# Altium integrated library TI Logic Buffer Line Driver.IntLib: 1053 symbols (part 12 of 17)
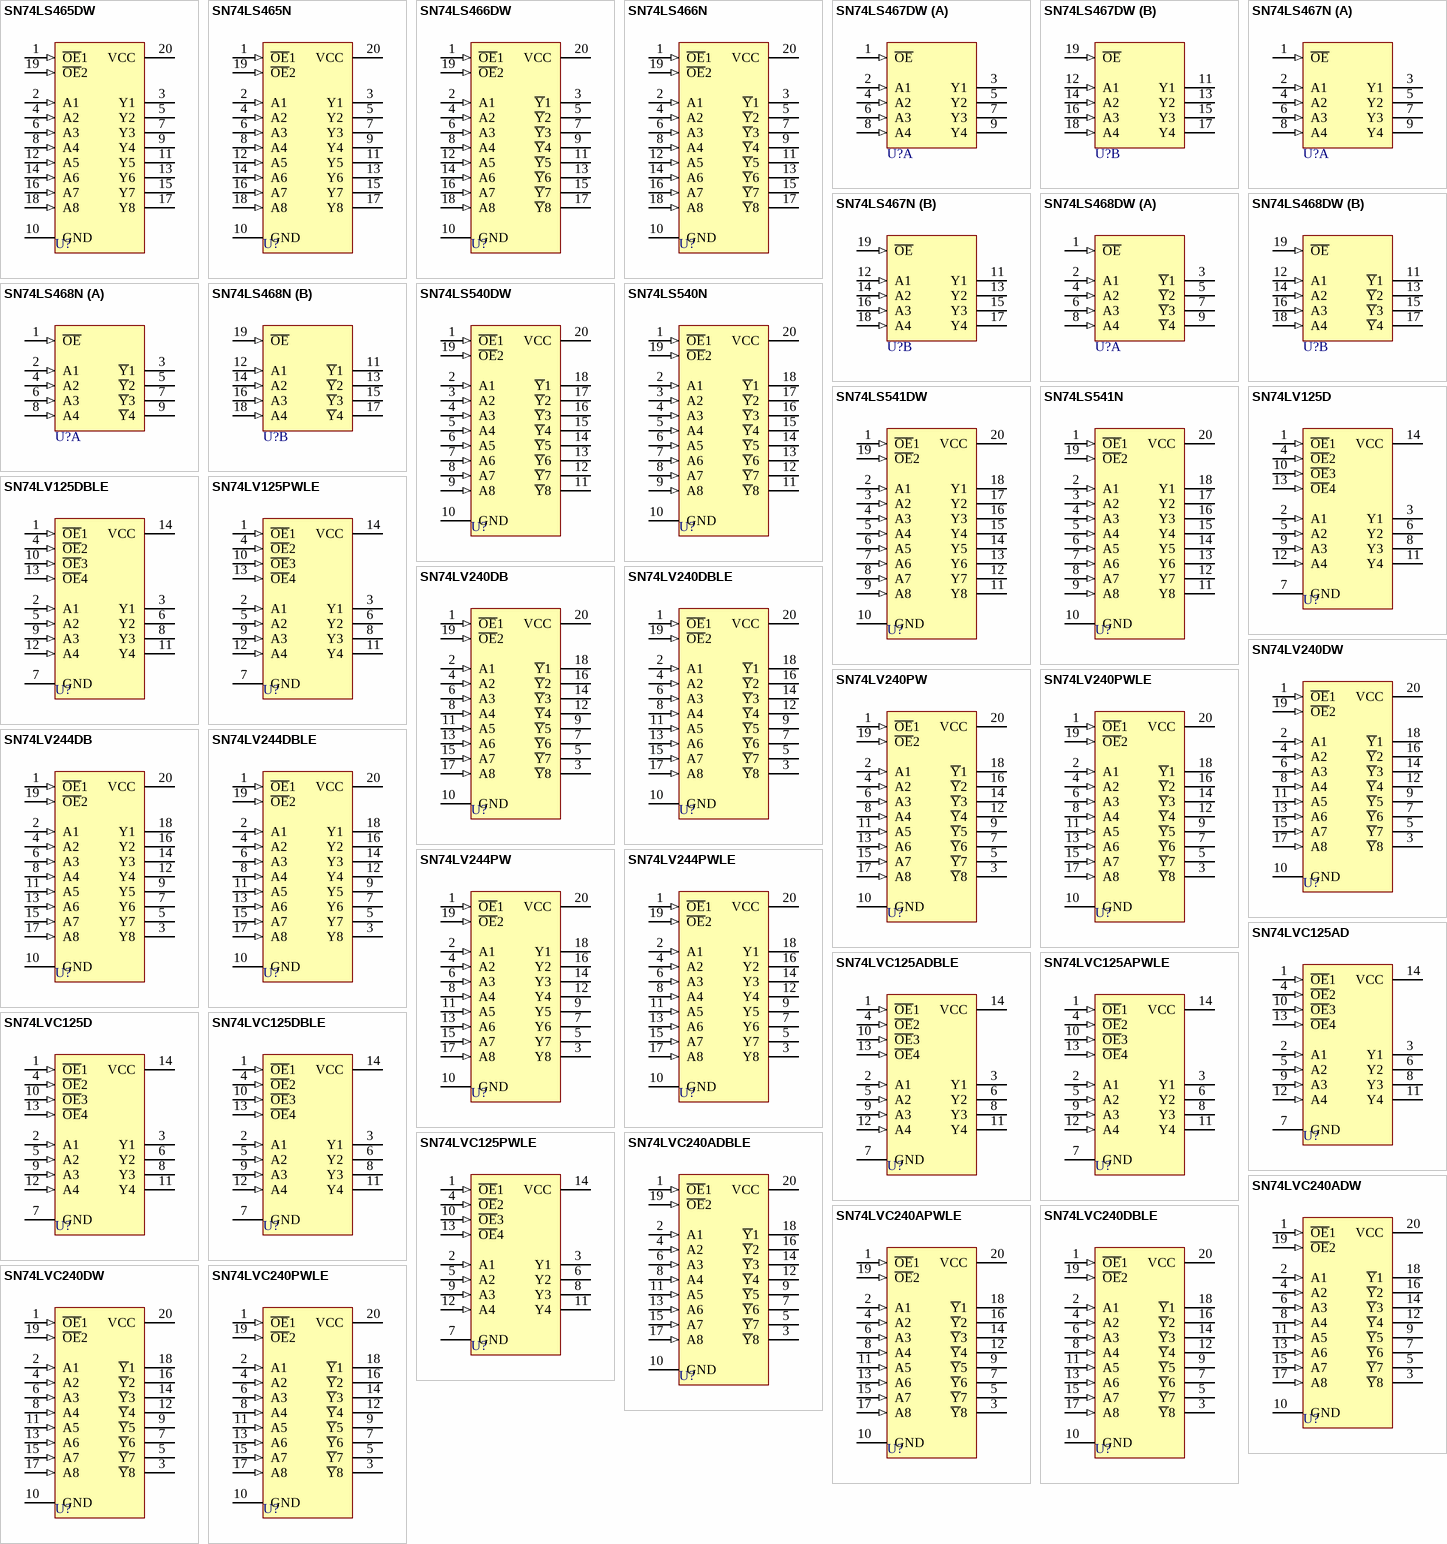
[diagram p56: symbols SN74LS465DW to SN74LVC240PWLE]

## SN74LS467N
designator U?
Octal Buffer with 3-State Outputs; Package Information: Latest Revision: Oct-1995; Published: 8-Jun-2000; Revision: 17-Jul-2002: Re-released for DXP Platform.; Datasheet: Latest Revision: Mar-1988; Package Reference: N020; Publisher: Altium Limited
footprint N020 (DIP; 20 Leads; Row Spacing 7.62 mm; Pitch 2.54 mm)
signal-integrity model SN74LS467N
pins on every part: 10 GND (power) hidden to GND, 20 VCC (power) hidden to VCC
part A pins: 1 ~{OE} (in), 2 A1 (in), 3 Y1 (hiz), 4 A2 (in), 5 Y2 (hiz), 6 A3 (in), 7 Y3 (hiz), 8 A4 (in), 9 Y4 (hiz)
part B pins: 11 Y1 (hiz), 12 A1 (in), 13 Y2 (hiz), 14 A2 (in), 15 Y3 (hiz), 16 A3 (in), 17 Y4 (hiz), 18 A4 (in), 19 ~{OE} (in)

## SN74LS468DW
designator U?
Octal Buffer with 3-State Outputs; Package Information: Latest Revision: Mar-2000; Code - JEDEC: MS-013; Published: 8-Jun-2000; Revision: 17-Jul-2002: Re-released for DXP Platform.; Datasheet: Latest Revision: Mar-1988; Package Reference: DW020; Publisher: Altium Limited
footprint DW020 (Plastic Small Outline; 20 Leads; Body Width 7.5 mm)
signal-integrity model SN74LS468DW
pins on every part: 10 GND (power) hidden to GND, 20 VCC (power) hidden to VCC
part A pins: 1 ~{OE} (in), 2 A1 (in), 3 ~{Y}1 (hiz), 4 A2 (in), 5 ~{Y}2 (hiz), 6 A3 (in), 7 ~{Y}3 (hiz), 8 A4 (in), 9 ~{Y}4 (hiz)
part B pins: 11 ~{Y}1 (hiz), 12 A1 (in), 13 ~{Y}2 (hiz), 14 A2 (in), 15 ~{Y}3 (hiz), 16 A3 (in), 17 ~{Y}4 (hiz), 18 A4 (in), 19 ~{OE} (in)

## SN74LS468N
designator U?
Octal Buffer with 3-State Outputs; Package Information: Latest Revision: Oct-1995; Published: 8-Jun-2000; Revision: 17-Jul-2002: Re-released for DXP Platform.; Datasheet: Latest Revision: Mar-1988; Package Reference: N020; Publisher: Altium Limited
footprint N020 (DIP; 20 Leads; Row Spacing 7.62 mm; Pitch 2.54 mm)
signal-integrity model SN74LS468N
pins on every part: 10 GND (power) hidden to GND, 20 VCC (power) hidden to VCC
part A pins: 1 ~{OE} (in), 2 A1 (in), 3 ~{Y}1 (hiz), 4 A2 (in), 5 ~{Y}2 (hiz), 6 A3 (in), 7 ~{Y}3 (hiz), 8 A4 (in), 9 ~{Y}4 (hiz)
part B pins: 11 ~{Y}1 (hiz), 12 A1 (in), 13 ~{Y}2 (hiz), 14 A2 (in), 15 ~{Y}3 (hiz), 16 A3 (in), 17 ~{Y}4 (hiz), 18 A4 (in), 19 ~{OE} (in)

## SN74LS540DW
designator U?
Octal Buffer and Line Driver with 3-State Outputs; Package Information: Latest Revision: Mar-2000; Code - JEDEC: MS-013; Published: 8-Jun-2000; Revision: 17-Jul-2002: Re-released for DXP Platform.; Datasheet: Latest Revision: Mar-1988; Package Reference: DW020; Publisher: Altium Limited
footprint DW020 (Plastic Small Outline; 20 Leads; Body Width 7.5 mm)
signal-integrity model SN74LS540DW
pins: 1 ~{OE}1 (in), 2 A1 (in), 3 A2 (in), 4 A3 (in), 5 A4 (in), 6 A5 (in), 7 A6 (in), 8 A7 (in), 9 A8 (in), 10 GND (power), 11 ~{Y}8 (hiz), 12 ~{Y}7 (hiz), 13 ~{Y}6 (hiz), 14 ~{Y}5 (hiz), 15 ~{Y}4 (hiz), 16 ~{Y}3 (hiz), 17 ~{Y}2 (hiz), 18 ~{Y}1 (hiz), 19 ~{OE}2 (in), 20 VCC (power)

## SN74LS540N
designator U?
Octal Buffer and Line Driver with 3-State Outputs; Package Information: Latest Revision: Oct-1995; Published: 8-Jun-2000; Revision: 17-Jul-2002: Re-released for DXP Platform.; Datasheet: Latest Revision: Mar-1988; Package Reference: N020; Publisher: Altium Limited
footprint N020 (DIP; 20 Leads; Row Spacing 7.62 mm; Pitch 2.54 mm)
signal-integrity model SN74LS540N
pins: 1 ~{OE}1 (in), 2 A1 (in), 3 A2 (in), 4 A3 (in), 5 A4 (in), 6 A5 (in), 7 A6 (in), 8 A7 (in), 9 A8 (in), 10 GND (power), 11 ~{Y}8 (hiz), 12 ~{Y}7 (hiz), 13 ~{Y}6 (hiz), 14 ~{Y}5 (hiz), 15 ~{Y}4 (hiz), 16 ~{Y}3 (hiz), 17 ~{Y}2 (hiz), 18 ~{Y}1 (hiz), 19 ~{OE}2 (in), 20 VCC (power)

## SN74LS541DW
designator U?
Octal Buffer and Line Driver with 3-State Outputs; Package Information: Latest Revision: Mar-2000; Code - JEDEC: MS-013; Published: 8-Jun-2000; Revision: 17-Jul-2002: Re-released for DXP Platform.; Datasheet: Latest Revision: Mar-1988; Package Reference: DW020; Publisher: Altium Limited
footprint DW020 (Plastic Small Outline; 20 Leads; Body Width 7.5 mm)
signal-integrity model SN74LS541DW
pins: 1 ~{OE}1 (in), 2 A1 (in), 3 A2 (in), 4 A3 (in), 5 A4 (in), 6 A5 (in), 7 A6 (in), 8 A7 (in), 9 A8 (in), 10 GND (power), 11 Y8 (hiz), 12 Y7 (hiz), 13 Y6 (hiz), 14 Y5 (hiz), 15 Y4 (hiz), 16 Y3 (hiz), 17 Y2 (hiz), 18 Y1 (hiz), 19 ~{OE}2 (in), 20 VCC (power)

## SN74LS541N
designator U?
Octal Buffer and Line Driver with 3-State Outputs; Package Information: Latest Revision: Oct-1995; Published: 8-Jun-2000; Revision: 17-Jul-2002: Re-released for DXP Platform.; Datasheet: Latest Revision: Mar-1988; Package Reference: N020; Publisher: Altium Limited
footprint N020 (DIP; 20 Leads; Row Spacing 7.62 mm; Pitch 2.54 mm)
signal-integrity model SN74LS541N
pins: 1 ~{OE}1 (in), 2 A1 (in), 3 A2 (in), 4 A3 (in), 5 A4 (in), 6 A5 (in), 7 A6 (in), 8 A7 (in), 9 A8 (in), 10 GND (power), 11 Y8 (hiz), 12 Y7 (hiz), 13 Y6 (hiz), 14 Y5 (hiz), 15 Y4 (hiz), 16 Y3 (hiz), 17 Y2 (hiz), 18 Y1 (hiz), 19 ~{OE}2 (in), 20 VCC (power)

## SN74LV125D
designator U?
Quadruple Bus Buffer Gate with 3-State Outputs; Package Information: Latest Revision: Jan-1998; Published: 8-Jun-2000; Revision: 17-Jul-2002: Re-released for DXP Platform.; Datasheet: Latest Revision: Apr-1996; Package Reference: D014; Publisher: Altium Limited
footprint D014 (Small Outline; 14 Leads; Body Width 3.9 mm; Pitch 1.27 mm)
signal-integrity model SN74LV125D
pins: 1 ~{OE}1 (in), 2 A1 (in), 3 Y1 (hiz), 4 ~{OE}2 (in), 5 A2 (in), 6 Y2 (hiz), 7 GND (power), 8 Y3 (hiz), 9 A3 (in), 10 ~{OE}3 (in), 11 Y4 (hiz), 12 A4 (in), 13 ~{OE}4 (in), 14 VCC (power)

## SN74LV125DBLE
designator U?
Quadruple Bus Buffer Gate with 3-State Outputs; Package Information: Latest Revision: May-1999; Code - JEDEC: MO-150-AB; Published: 8-Jun-2000; Revision: 17-Jul-2002: Re-released for DXP Platform.; Datasheet: Latest Revision: Apr-1996; Package Reference: DB014; Publisher: Altium Limited
footprint DB014 (Plastic SSOP; 14 Leads; Body Width 5.3 mm; Pitch 0.65 mm)
signal-integrity model SN74LV125DBLE
pins: 1 ~{OE}1 (in), 2 A1 (in), 3 Y1 (hiz), 4 ~{OE}2 (in), 5 A2 (in), 6 Y2 (hiz), 7 GND (power), 8 Y3 (hiz), 9 A3 (in), 10 ~{OE}3 (in), 11 Y4 (hiz), 12 A4 (in), 13 ~{OE}4 (in), 14 VCC (power)

## SN74LV125PWLE
designator U?
Quadruple Bus Buffer Gate with 3-State Outputs; Package Information: Latest Revision: Feb-1999; Published: 8-Jun-2000; Revision: 17-Jul-2002: Re-released for DXP Platform.; Datasheet: Latest Revision: Apr-1996; Package Reference: PW014; Publisher: Altium Limited
footprint PW014 (Shrink Small Outline; 14 Leads; Body Width 4.4 mm; Pitch 0.65 mm)
signal-integrity model SN74LV125PWLE
pins: 1 ~{OE}1 (in), 2 A1 (in), 3 Y1 (hiz), 4 ~{OE}2 (in), 5 A2 (in), 6 Y2 (hiz), 7 GND (power), 8 Y3 (hiz), 9 A3 (in), 10 ~{OE}3 (in), 11 Y4 (hiz), 12 A4 (in), 13 ~{OE}4 (in), 14 VCC (power)

## SN74LV240DB
designator U?
Octal Buffer/Driver with 3-State Outputs; Package Information: Latest Revision: May-1999; Code - JEDEC: MO-150-AE; Published: 8-Jun-2000; Revision: 17-Jul-2002: Re-released for DXP Platform.; Datasheet: Latest Revision: Apr-1996; Package Reference: DB020; Publisher: Altium Limited
footprint DB020 (Plastic SSOP; 20 Leads; Body Width 5.3 mm; Pitch 0.65 mm)
signal-integrity model SN74LV240DB
pins: 1 ~{OE}1 (in), 2 A1 (in), 3 ~{Y}8 (hiz), 4 A2 (in), 5 ~{Y}7 (hiz), 6 A3 (in), 7 ~{Y}6 (hiz), 8 A4 (in), 9 ~{Y}5 (hiz), 10 GND (power), 11 A5 (in), 12 ~{Y}4 (hiz), 13 A6 (in), 14 ~{Y}3 (hiz), 15 A7 (in), 16 ~{Y}2 (hiz), 17 A8 (in), 18 ~{Y}1 (hiz), 19 ~{OE}2 (in), 20 VCC (power)

## SN74LV240DBLE
designator U?
Octal Buffer/Driver with 3-State Outputs; Package Information: Latest Revision: May-1999; Code - JEDEC: MO-150-AE; Published: 8-Jun-2000; Revision: 17-Jul-2002: Re-released for DXP Platform.; Datasheet: Latest Revision: Apr-1996; Package Reference: DB020; Publisher: Altium Limited
footprint DB020 (Plastic SSOP; 20 Leads; Body Width 5.3 mm; Pitch 0.65 mm)
signal-integrity model SN74LV240DBLE
pins: 1 ~{OE}1 (in), 2 A1 (in), 3 ~{Y}8 (hiz), 4 A2 (in), 5 ~{Y}7 (hiz), 6 A3 (in), 7 ~{Y}6 (hiz), 8 A4 (in), 9 ~{Y}5 (hiz), 10 GND (power), 11 A5 (in), 12 ~{Y}4 (hiz), 13 A6 (in), 14 ~{Y}3 (hiz), 15 A7 (in), 16 ~{Y}2 (hiz), 17 A8 (in), 18 ~{Y}1 (hiz), 19 ~{OE}2 (in), 20 VCC (power)

## SN74LV240DW
designator U?
Octal Buffer/Driver with 3-State Outputs; Package Information: Latest Revision: Mar-2000; Code - JEDEC: MS-013; Published: 8-Jun-2000; Revision: 17-Jul-2002: Re-released for DXP Platform.; Datasheet: Latest Revision: Apr-1996; Package Reference: DW020; Publisher: Altium Limited
footprint DW020 (Plastic Small Outline; 20 Leads; Body Width 7.5 mm)
signal-integrity model SN74LV240DW
pins: 1 ~{OE}1 (in), 2 A1 (in), 3 ~{Y}8 (hiz), 4 A2 (in), 5 ~{Y}7 (hiz), 6 A3 (in), 7 ~{Y}6 (hiz), 8 A4 (in), 9 ~{Y}5 (hiz), 10 GND (power), 11 A5 (in), 12 ~{Y}4 (hiz), 13 A6 (in), 14 ~{Y}3 (hiz), 15 A7 (in), 16 ~{Y}2 (hiz), 17 A8 (in), 18 ~{Y}1 (hiz), 19 ~{OE}2 (in), 20 VCC (power)

## SN74LV240PW
designator U?
Octal Buffer/Driver with 3-State Outputs; Package Information: Latest Revision: Feb-1999; Published: 8-Jun-2000; Revision: 17-Jul-2002: Re-released for DXP Platform.; Datasheet: Latest Revision: Apr-1996; Package Reference: PW020; Publisher: Altium Limited
footprint PW020 (Shrink Small Outline; 20 Leads; Body Width 4.4 mm; Pitch 0.65 mm)
signal-integrity model SN74LV240PW
pins: 1 ~{OE}1 (in), 2 A1 (in), 3 ~{Y}8 (hiz), 4 A2 (in), 5 ~{Y}7 (hiz), 6 A3 (in), 7 ~{Y}6 (hiz), 8 A4 (in), 9 ~{Y}5 (hiz), 10 GND (power), 11 A5 (in), 12 ~{Y}4 (hiz), 13 A6 (in), 14 ~{Y}3 (hiz), 15 A7 (in), 16 ~{Y}2 (hiz), 17 A8 (in), 18 ~{Y}1 (hiz), 19 ~{OE}2 (in), 20 VCC (power)

## SN74LV240PWLE
designator U?
Octal Buffer/Driver with 3-State Outputs; Package Information: Latest Revision: Feb-1999; Published: 8-Jun-2000; Revision: 17-Jul-2002: Re-released for DXP Platform.; Datasheet: Latest Revision: Apr-1996; Package Reference: PW020; Publisher: Altium Limited
footprint PW020 (Shrink Small Outline; 20 Leads; Body Width 4.4 mm; Pitch 0.65 mm)
signal-integrity model SN74LV240PWLE
pins: 1 ~{OE}1 (in), 2 A1 (in), 3 ~{Y}8 (hiz), 4 A2 (in), 5 ~{Y}7 (hiz), 6 A3 (in), 7 ~{Y}6 (hiz), 8 A4 (in), 9 ~{Y}5 (hiz), 10 GND (power), 11 A5 (in), 12 ~{Y}4 (hiz), 13 A6 (in), 14 ~{Y}3 (hiz), 15 A7 (in), 16 ~{Y}2 (hiz), 17 A8 (in), 18 ~{Y}1 (hiz), 19 ~{OE}2 (in), 20 VCC (power)

## SN74LV244DB
designator U?
Octal Buffer/Driver with 3-State Outputs; Package Information: Latest Revision: May-1999; Code - JEDEC: MO-150-AE; Published: 8-Jun-2000; Revision: 17-Jul-2002: Re-released for DXP Platform.; Datasheet: Latest Revision: Apr-1996; Package Reference: DB020; Publisher: Altium Limited
footprint DB020 (Plastic SSOP; 20 Leads; Body Width 5.3 mm; Pitch 0.65 mm)
signal-integrity model SN74LV244DB
pins: 1 ~{OE}1 (in), 2 A1 (in), 3 Y8 (hiz), 4 A2 (in), 5 Y7 (hiz), 6 A3 (in), 7 Y6 (hiz), 8 A4 (in), 9 Y5 (hiz), 10 GND (power), 11 A5 (in), 12 Y4 (hiz), 13 A6 (in), 14 Y3 (hiz), 15 A7 (in), 16 Y2 (hiz), 17 A8 (in), 18 Y1 (hiz), 19 ~{OE}2 (in), 20 VCC (power)

## SN74LV244DBLE
designator U?
Octal Buffer/Driver with 3-State Outputs; Package Information: Latest Revision: May-1999; Code - JEDEC: MO-150-AE; Published: 8-Jun-2000; Revision: 17-Jul-2002: Re-released for DXP Platform.; Datasheet: Latest Revision: Apr-1996; Package Reference: DB020; Publisher: Altium Limited
footprint DB020 (Plastic SSOP; 20 Leads; Body Width 5.3 mm; Pitch 0.65 mm)
signal-integrity model SN74LV244DBLE
pins: 1 ~{OE}1 (in), 2 A1 (in), 3 Y8 (hiz), 4 A2 (in), 5 Y7 (hiz), 6 A3 (in), 7 Y6 (hiz), 8 A4 (in), 9 Y5 (hiz), 10 GND (power), 11 A5 (in), 12 Y4 (hiz), 13 A6 (in), 14 Y3 (hiz), 15 A7 (in), 16 Y2 (hiz), 17 A8 (in), 18 Y1 (hiz), 19 ~{OE}2 (in), 20 VCC (power)

## SN74LV244PW
designator U?
Octal Buffer/Driver with 3-State Outputs; Package Information: Latest Revision: Feb-1999; Published: 8-Jun-2000; Revision: 17-Jul-2002: Re-released for DXP Platform.; Datasheet: Latest Revision: Apr-1996; Package Reference: PW020; Publisher: Altium Limited
footprint PW020 (Shrink Small Outline; 20 Leads; Body Width 4.4 mm; Pitch 0.65 mm)
signal-integrity model SN74LV244PW
pins: 1 ~{OE}1 (in), 2 A1 (in), 3 Y8 (hiz), 4 A2 (in), 5 Y7 (hiz), 6 A3 (in), 7 Y6 (hiz), 8 A4 (in), 9 Y5 (hiz), 10 GND (power), 11 A5 (in), 12 Y4 (hiz), 13 A6 (in), 14 Y3 (hiz), 15 A7 (in), 16 Y2 (hiz), 17 A8 (in), 18 Y1 (hiz), 19 ~{OE}2 (in), 20 VCC (power)

## SN74LV244PWLE
designator U?
Octal Buffer/Driver with 3-State Outputs; Package Information: Latest Revision: Feb-1999; Published: 8-Jun-2000; Revision: 17-Jul-2002: Re-released for DXP Platform.; Datasheet: Latest Revision: Apr-1996; Package Reference: PW020; Publisher: Altium Limited
footprint PW020 (Shrink Small Outline; 20 Leads; Body Width 4.4 mm; Pitch 0.65 mm)
signal-integrity model SN74LV244PWLE
pins: 1 ~{OE}1 (in), 2 A1 (in), 3 Y8 (hiz), 4 A2 (in), 5 Y7 (hiz), 6 A3 (in), 7 Y6 (hiz), 8 A4 (in), 9 Y5 (hiz), 10 GND (power), 11 A5 (in), 12 Y4 (hiz), 13 A6 (in), 14 Y3 (hiz), 15 A7 (in), 16 Y2 (hiz), 17 A8 (in), 18 Y1 (hiz), 19 ~{OE}2 (in), 20 VCC (power)

## SN74LVC125AD
designator U?
Quadruple Bus Buffer Gate with 3-State Outputs; Package Information: Latest Revision: Jan-1998; Published: 8-Jun-2000; Revision: 17-Jul-2002: Re-released for DXP Platform.; Datasheet: Latest Revision: Jun-1998; Package Reference: D014; Publisher: Altium Limited
footprint D014 (Small Outline; 14 Leads; Body Width 3.9 mm; Pitch 1.27 mm)
signal-integrity model SN74LVC125AD
pins: 1 ~{OE}1 (in), 2 A1 (in), 3 Y1 (hiz), 4 ~{OE}2 (in), 5 A2 (in), 6 Y2 (hiz), 7 GND (power), 8 Y3 (hiz), 9 A3 (in), 10 ~{OE}3 (in), 11 Y4 (hiz), 12 A4 (in), 13 ~{OE}4 (in), 14 VCC (power)

## SN74LVC125ADBLE
designator U?
Quadruple Bus Buffer Gate with 3-State Outputs; Package Information: Latest Revision: May-1999; Code - JEDEC: MO-150-AB; Published: 8-Jun-2000; Revision: 17-Jul-2002: Re-released for DXP Platform.; Datasheet: Latest Revision: Jun-1998; Package Reference: DB014; Publisher: Altium Limited
footprint DB014 (Plastic SSOP; 14 Leads; Body Width 5.3 mm; Pitch 0.65 mm)
signal-integrity model SN74LVC125ADBLE
pins: 1 ~{OE}1 (in), 2 A1 (in), 3 Y1 (hiz), 4 ~{OE}2 (in), 5 A2 (in), 6 Y2 (hiz), 7 GND (power), 8 Y3 (hiz), 9 A3 (in), 10 ~{OE}3 (in), 11 Y4 (hiz), 12 A4 (in), 13 ~{OE}4 (in), 14 VCC (power)

## SN74LVC125APWLE
designator U?
Quadruple Bus Buffer Gate with 3-State Outputs; Package Information: Latest Revision: Feb-1999; Published: 8-Jun-2000; Revision: 17-Jul-2002: Re-released for DXP Platform.; Datasheet: Latest Revision: Jun-1998; Package Reference: PW014; Publisher: Altium Limited
footprint PW014 (Shrink Small Outline; 14 Leads; Body Width 4.4 mm; Pitch 0.65 mm)
signal-integrity model SN74LVC125APWLE
pins: 1 ~{OE}1 (in), 2 A1 (in), 3 Y1 (hiz), 4 ~{OE}2 (in), 5 A2 (in), 6 Y2 (hiz), 7 GND (power), 8 Y3 (hiz), 9 A3 (in), 10 ~{OE}3 (in), 11 Y4 (hiz), 12 A4 (in), 13 ~{OE}4 (in), 14 VCC (power)

## SN74LVC125D
designator U?
Quadruple Bus Buffer Gate with 3-State Outputs; Package Information: Latest Revision: Jan-1998; Published: 8-Jun-2000; Revision: 17-Jul-2002: Re-released for DXP Platform.; Datasheet: Latest Revision: Jul-1995; Package Reference: D014; Publisher: Altium Limited
footprint D014 (Small Outline; 14 Leads; Body Width 3.9 mm; Pitch 1.27 mm)
signal-integrity model SN74LVC125D
pins: 1 ~{OE}1 (in), 2 A1 (in), 3 Y1 (hiz), 4 ~{OE}2 (in), 5 A2 (in), 6 Y2 (hiz), 7 GND (power), 8 Y3 (hiz), 9 A3 (in), 10 ~{OE}3 (in), 11 Y4 (hiz), 12 A4 (in), 13 ~{OE}4 (in), 14 VCC (power)

## SN74LVC125DBLE
designator U?
Quadruple Bus Buffer Gate with 3-State Outputs; Package Information: Latest Revision: May-1999; Code - JEDEC: MO-150-AB; Published: 8-Jun-2000; Revision: 17-Jul-2002: Re-released for DXP Platform.; Datasheet: Latest Revision: Jul-1995; Package Reference: DB014; Publisher: Altium Limited
footprint DB014 (Plastic SSOP; 14 Leads; Body Width 5.3 mm; Pitch 0.65 mm)
signal-integrity model SN74LVC125DBLE
pins: 1 ~{OE}1 (in), 2 A1 (in), 3 Y1 (hiz), 4 ~{OE}2 (in), 5 A2 (in), 6 Y2 (hiz), 7 GND (power), 8 Y3 (hiz), 9 A3 (in), 10 ~{OE}3 (in), 11 Y4 (hiz), 12 A4 (in), 13 ~{OE}4 (in), 14 VCC (power)

## SN74LVC125PWLE
designator U?
Quadruple Bus Buffer Gate with 3-State Outputs; Package Information: Latest Revision: Feb-1999; Published: 8-Jun-2000; Revision: 17-Jul-2002: Re-released for DXP Platform.; Datasheet: Latest Revision: Jul-1995; Package Reference: PW014; Publisher: Altium Limited
footprint PW014 (Shrink Small Outline; 14 Leads; Body Width 4.4 mm; Pitch 0.65 mm)
signal-integrity model SN74LVC125PWLE
pins: 1 ~{OE}1 (in), 2 A1 (in), 3 Y1 (hiz), 4 ~{OE}2 (in), 5 A2 (in), 6 Y2 (hiz), 7 GND (power), 8 Y3 (hiz), 9 A3 (in), 10 ~{OE}3 (in), 11 Y4 (hiz), 12 A4 (in), 13 ~{OE}4 (in), 14 VCC (power)

## SN74LVC240ADBLE
designator U?
Octal Buffer/Driver with 3-State Outputs; Package Information: Latest Revision: May-1999; Code - JEDEC: MO-150-AE; Published: 8-Jun-2000; Revision: 17-Jul-2002: Re-released for DXP Platform.; Datasheet: Latest Revision: Jun-1998; Package Reference: DB020; Publisher: Altium Limited
footprint DB020 (Plastic SSOP; 20 Leads; Body Width 5.3 mm; Pitch 0.65 mm)
signal-integrity model SN74LVC240ADBLE
pins: 1 ~{OE}1 (in), 2 A1 (in), 3 ~{Y}8 (hiz), 4 A2 (in), 5 ~{Y}7 (hiz), 6 A3 (in), 7 ~{Y}6 (hiz), 8 A4 (in), 9 ~{Y}5 (hiz), 10 GND (power), 11 A5 (in), 12 ~{Y}4 (hiz), 13 A6 (in), 14 ~{Y}3 (hiz), 15 A7 (in), 16 ~{Y}2 (hiz), 17 A8 (in), 18 ~{Y}1 (hiz), 19 ~{OE}2 (in), 20 VCC (power)

## SN74LVC240ADW
designator U?
Octal Buffer/Driver with 3-State Outputs; Package Information: Latest Revision: Mar-2000; Code - JEDEC: MS-013; Published: 8-Jun-2000; Revision: 17-Jul-2002: Re-released for DXP Platform.; Datasheet: Latest Revision: Jun-1998; Package Reference: DW020; Publisher: Altium Limited
footprint DW020 (Plastic Small Outline; 20 Leads; Body Width 7.5 mm)
signal-integrity model SN74LVC240ADW
pins: 1 ~{OE}1 (in), 2 A1 (in), 3 ~{Y}8 (hiz), 4 A2 (in), 5 ~{Y}7 (hiz), 6 A3 (in), 7 ~{Y}6 (hiz), 8 A4 (in), 9 ~{Y}5 (hiz), 10 GND (power), 11 A5 (in), 12 ~{Y}4 (hiz), 13 A6 (in), 14 ~{Y}3 (hiz), 15 A7 (in), 16 ~{Y}2 (hiz), 17 A8 (in), 18 ~{Y}1 (hiz), 19 ~{OE}2 (in), 20 VCC (power)

## SN74LVC240APWLE
designator U?
Octal Buffer/Driver with 3-State Outputs; Package Information: Latest Revision: Feb-1999; Published: 8-Jun-2000; Revision: 17-Jul-2002: Re-released for DXP Platform.; Datasheet: Latest Revision: Jun-1998; Package Reference: PW020; Publisher: Altium Limited
footprint PW020 (Shrink Small Outline; 20 Leads; Body Width 4.4 mm; Pitch 0.65 mm)
signal-integrity model SN74LVC240APWLE
pins: 1 ~{OE}1 (in), 2 A1 (in), 3 ~{Y}8 (hiz), 4 A2 (in), 5 ~{Y}7 (hiz), 6 A3 (in), 7 ~{Y}6 (hiz), 8 A4 (in), 9 ~{Y}5 (hiz), 10 GND (power), 11 A5 (in), 12 ~{Y}4 (hiz), 13 A6 (in), 14 ~{Y}3 (hiz), 15 A7 (in), 16 ~{Y}2 (hiz), 17 A8 (in), 18 ~{Y}1 (hiz), 19 ~{OE}2 (in), 20 VCC (power)

## SN74LVC240DBLE
designator U?
Octal Buffer/Driver with 3-State Outputs; Package Information: Latest Revision: May-1999; Code - JEDEC: MO-150-AE; Published: 8-Jun-2000; Revision: 17-Jul-2002: Re-released for DXP Platform.; Datasheet: Latest Revision: Jul-1995; Package Reference: DB020; Publisher: Altium Limited
footprint DB020 (Plastic SSOP; 20 Leads; Body Width 5.3 mm; Pitch 0.65 mm)
signal-integrity model SN74LVC240DBLE
pins: 1 ~{OE}1 (in), 2 A1 (in), 3 ~{Y}8 (hiz), 4 A2 (in), 5 ~{Y}7 (hiz), 6 A3 (in), 7 ~{Y}6 (hiz), 8 A4 (in), 9 ~{Y}5 (hiz), 10 GND (power), 11 A5 (in), 12 ~{Y}4 (hiz), 13 A6 (in), 14 ~{Y}3 (hiz), 15 A7 (in), 16 ~{Y}2 (hiz), 17 A8 (in), 18 ~{Y}1 (hiz), 19 ~{OE}2 (in), 20 VCC (power)

## SN74LVC240DW
designator U?
Octal Buffer/Driver with 3-State Outputs; Package Information: Latest Revision: Mar-2000; Code - JEDEC: MS-013; Published: 8-Jun-2000; Revision: 17-Jul-2002: Re-released for DXP Platform.; Datasheet: Latest Revision: Jul-1995; Package Reference: DW020; Publisher: Altium Limited
footprint DW020 (Plastic Small Outline; 20 Leads; Body Width 7.5 mm)
signal-integrity model SN74LVC240DW
pins: 1 ~{OE}1 (in), 2 A1 (in), 3 ~{Y}8 (hiz), 4 A2 (in), 5 ~{Y}7 (hiz), 6 A3 (in), 7 ~{Y}6 (hiz), 8 A4 (in), 9 ~{Y}5 (hiz), 10 GND (power), 11 A5 (in), 12 ~{Y}4 (hiz), 13 A6 (in), 14 ~{Y}3 (hiz), 15 A7 (in), 16 ~{Y}2 (hiz), 17 A8 (in), 18 ~{Y}1 (hiz), 19 ~{OE}2 (in), 20 VCC (power)

## SN74LVC240PWLE
designator U?
Octal Buffer/Driver with 3-State Outputs; Package Information: Latest Revision: Feb-1999; Published: 8-Jun-2000; Revision: 17-Jul-2002: Re-released for DXP Platform.; Datasheet: Latest Revision: Jul-1995; Package Reference: PW020; Publisher: Altium Limited
footprint PW020 (Shrink Small Outline; 20 Leads; Body Width 4.4 mm; Pitch 0.65 mm)
signal-integrity model SN74LVC240PWLE
pins: 1 ~{OE}1 (in), 2 A1 (in), 3 ~{Y}8 (hiz), 4 A2 (in), 5 ~{Y}7 (hiz), 6 A3 (in), 7 ~{Y}6 (hiz), 8 A4 (in), 9 ~{Y}5 (hiz), 10 GND (power), 11 A5 (in), 12 ~{Y}4 (hiz), 13 A6 (in), 14 ~{Y}3 (hiz), 15 A7 (in), 16 ~{Y}2 (hiz), 17 A8 (in), 18 ~{Y}1 (hiz), 19 ~{OE}2 (in), 20 VCC (power)

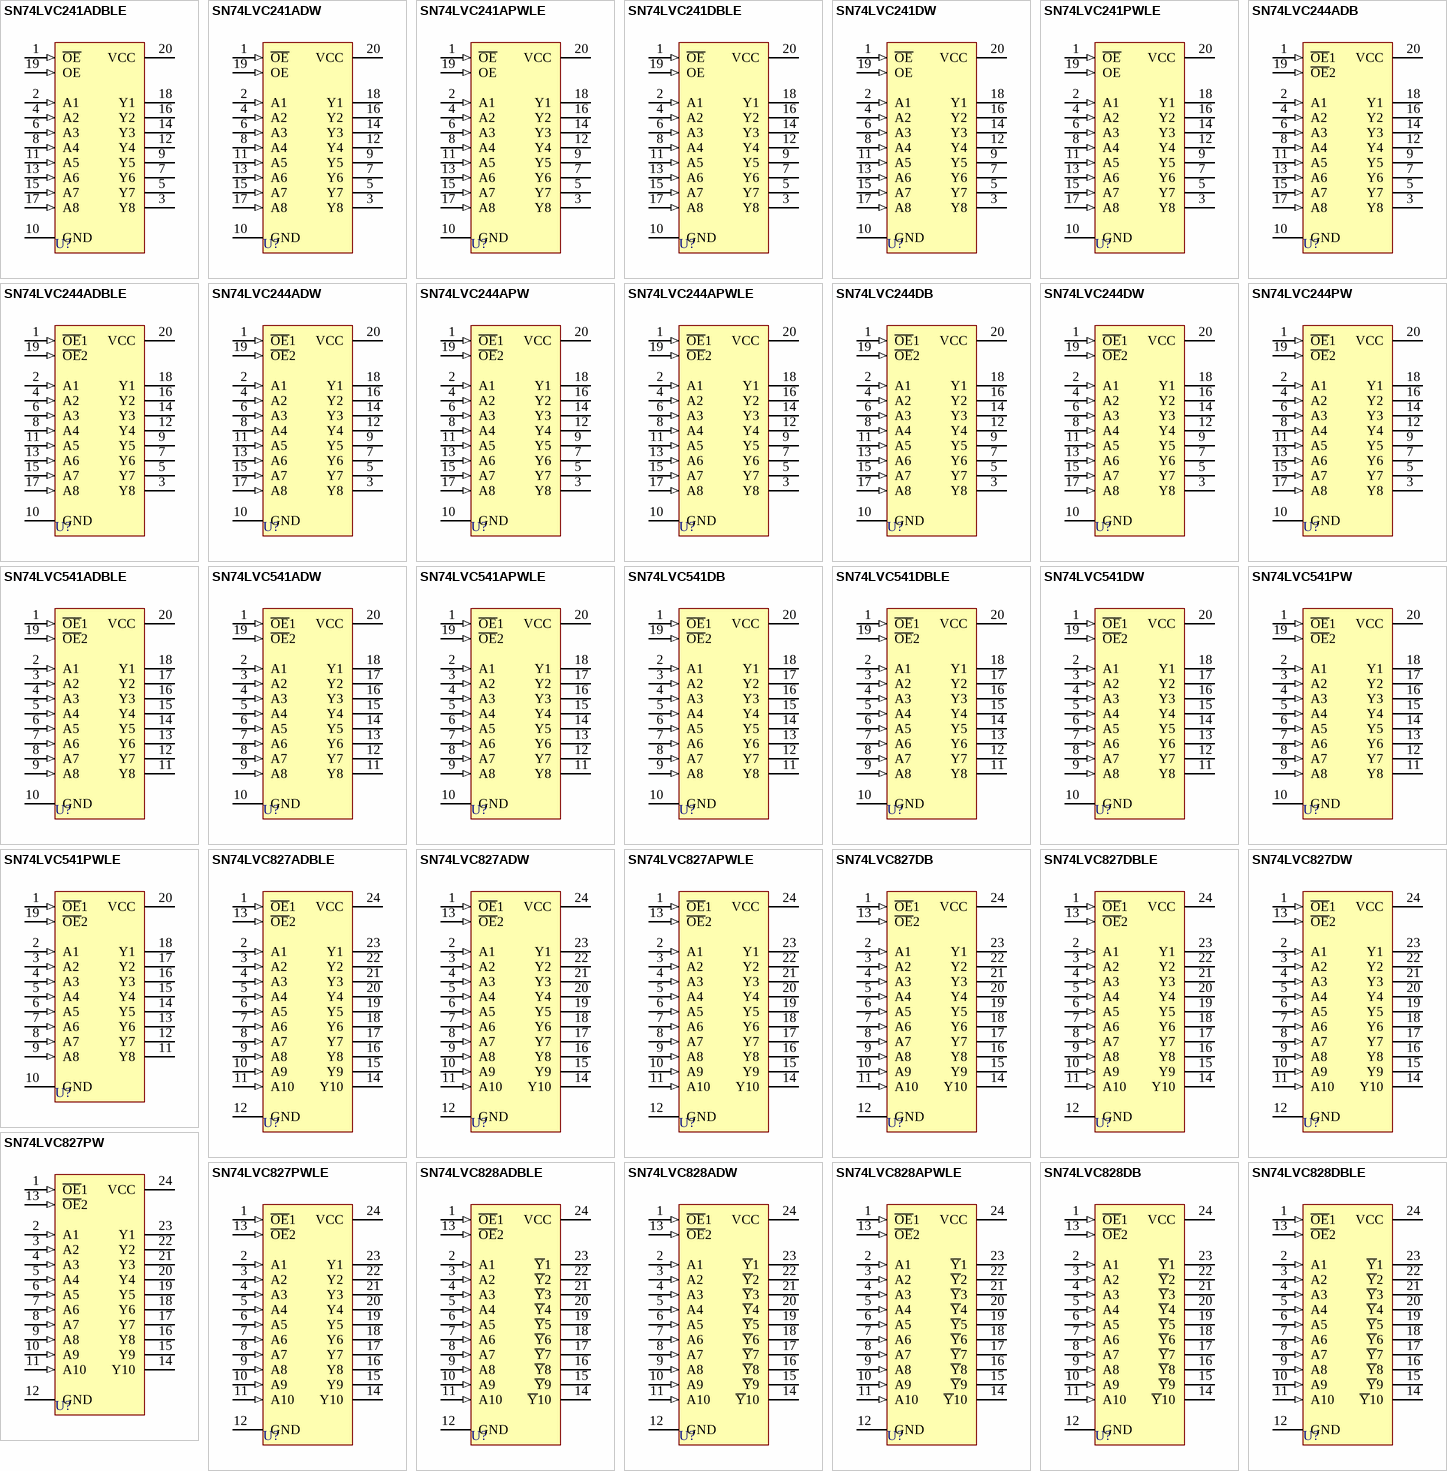
[diagram p31: symbols SN74LVC241ADBLE to SN74LVC828DBLE]

## SN74LVC241ADBLE
designator U?
Octal  Buffer/Driver with 3-State Outputs; Package Information: Latest Revision: May-1999; Code - JEDEC: MO-150-AE; Published: 8-Jun-2000; Revision: 17-Jul-2002: Re-released for DXP Platform.; Datasheet: Latest Revision: Jun-1998; Package Reference: DB020; Publisher: Altium Limited
footprint DB020 (Plastic SSOP; 20 Leads; Body Width 5.3 mm; Pitch 0.65 mm)
signal-integrity model SN74LVC241ADBLE
pins: 1 ~{OE}  (in), 2 A1 (in), 3 Y8 (hiz), 4 A2 (in), 5 Y7 (hiz), 6 A3 (in), 7 Y6 (hiz), 8 A4 (in), 9 Y5 (hiz), 10 GND (power), 11 A5 (in), 12 Y4 (hiz), 13 A6  (in), 14 Y3 (hiz), 15 A7  (in), 16 Y2 (hiz), 17 A8 (in), 18 Y1 (hiz), 19 OE (in), 20 VCC (power)

## SN74LVC241ADW
designator U?
Octal  Buffer/Driver with 3-State Outputs; Package Information: Latest Revision: Mar-2000; Code - JEDEC: MS-013; Published: 8-Jun-2000; Revision: 17-Jul-2002: Re-released for DXP Platform.; Datasheet: Latest Revision: Jun-1998; Package Reference: DW020; Publisher: Altium Limited
footprint DW020 (Plastic Small Outline; 20 Leads; Body Width 7.5 mm)
signal-integrity model SN74LVC241ADW
pins: 1 ~{OE}  (in), 2 A1 (in), 3 Y8 (hiz), 4 A2 (in), 5 Y7 (hiz), 6 A3 (in), 7 Y6 (hiz), 8 A4 (in), 9 Y5 (hiz), 10 GND (power), 11 A5 (in), 12 Y4 (hiz), 13 A6  (in), 14 Y3 (hiz), 15 A7  (in), 16 Y2 (hiz), 17 A8 (in), 18 Y1 (hiz), 19 OE (in), 20 VCC (power)

## SN74LVC241APWLE
designator U?
Octal  Buffer/Driver with 3-State Outputs; Package Information: Latest Revision: Feb-1999; Published: 8-Jun-2000; Revision: 17-Jul-2002: Re-released for DXP Platform.; Datasheet: Latest Revision: Jun-1998; Package Reference: PW020; Publisher: Altium Limited
footprint PW020 (Shrink Small Outline; 20 Leads; Body Width 4.4 mm; Pitch 0.65 mm)
signal-integrity model SN74LVC241APWLE
pins: 1 ~{OE}  (in), 2 A1 (in), 3 Y8 (hiz), 4 A2 (in), 5 Y7 (hiz), 6 A3 (in), 7 Y6 (hiz), 8 A4 (in), 9 Y5 (hiz), 10 GND (power), 11 A5 (in), 12 Y4 (hiz), 13 A6  (in), 14 Y3 (hiz), 15 A7  (in), 16 Y2 (hiz), 17 A8 (in), 18 Y1 (hiz), 19 OE (in), 20 VCC (power)

## SN74LVC241DBLE
designator U?
Octal Buffer/Driver with 3-State Outputs; Package Information: Latest Revision: May-1999; Code - JEDEC: MO-150-AE; Published: 8-Jun-2000; Revision: 17-Jul-2002: Re-released for DXP Platform.; Datasheet: Latest Revision: Jul-1995; Package Reference: DB020; Publisher: Altium Limited
footprint DB020 (Plastic SSOP; 20 Leads; Body Width 5.3 mm; Pitch 0.65 mm)
signal-integrity model SN74LVC241DBLE
pins: 1 ~{OE}  (in), 2 A1 (in), 3 Y8 (hiz), 4 A2 (in), 5 Y7 (hiz), 6 A3 (in), 7 Y6 (hiz), 8 A4 (in), 9 Y5 (hiz), 10 GND (power), 11 A5 (in), 12 Y4 (hiz), 13 A6  (in), 14 Y3 (hiz), 15 A7  (in), 16 Y2 (hiz), 17 A8 (in), 18 Y1 (hiz), 19 OE (in), 20 VCC (power)

## SN74LVC241DW
designator U?
Octal Buffer/Driver with 3-State Outputs; Package Information: Latest Revision: Mar-2000; Code - JEDEC: MS-013; Published: 8-Jun-2000; Revision: 17-Jul-2002: Re-released for DXP Platform.; Datasheet: Latest Revision: Jul-1995; Package Reference: DW020; Publisher: Altium Limited
footprint DW020 (Plastic Small Outline; 20 Leads; Body Width 7.5 mm)
signal-integrity model SN74LVC241DW
pins: 1 ~{OE}  (in), 2 A1 (in), 3 Y8 (hiz), 4 A2 (in), 5 Y7 (hiz), 6 A3 (in), 7 Y6 (hiz), 8 A4 (in), 9 Y5 (hiz), 10 GND (power), 11 A5 (in), 12 Y4 (hiz), 13 A6  (in), 14 Y3 (hiz), 15 A7  (in), 16 Y2 (hiz), 17 A8 (in), 18 Y1 (hiz), 19 OE (in), 20 VCC (power)

## SN74LVC241PWLE
designator U?
Octal Buffer/Driver with 3-State Outputs; Package Information: Latest Revision: Feb-1999; Published: 8-Jun-2000; Revision: 17-Jul-2002: Re-released for DXP Platform.; Datasheet: Latest Revision: Jul-1995; Package Reference: PW020; Publisher: Altium Limited
footprint PW020 (Shrink Small Outline; 20 Leads; Body Width 4.4 mm; Pitch 0.65 mm)
signal-integrity model SN74LVC241PWLE
pins: 1 ~{OE}  (in), 2 A1 (in), 3 Y8 (hiz), 4 A2 (in), 5 Y7 (hiz), 6 A3 (in), 7 Y6 (hiz), 8 A4 (in), 9 Y5 (hiz), 10 GND (power), 11 A5 (in), 12 Y4 (hiz), 13 A6  (in), 14 Y3 (hiz), 15 A7  (in), 16 Y2 (hiz), 17 A8 (in), 18 Y1 (hiz), 19 OE (in), 20 VCC (power)

## SN74LVC244ADB
designator U?
Octal Buffer/Driver with 3-State Outputs; Package Information: Latest Revision: May-1999; Code - JEDEC: MO-150-AE; Published: 8-Jun-2000; Revision: 17-Jul-2002: Re-released for DXP Platform.; Datasheet: Latest Revision: Apr-1999; Package Reference: DB020; Publisher: Altium Limited
footprint DB020 (Plastic SSOP; 20 Leads; Body Width 5.3 mm; Pitch 0.65 mm)
signal-integrity model SN74LVC244ADB
pins: 1 ~{OE}1 (in), 2 A1 (in), 3 Y8 (hiz), 4 A2 (in), 5 Y7 (hiz), 6 A3 (in), 7 Y6 (hiz), 8 A4 (in), 9 Y5 (hiz), 10 GND (power), 11 A5 (in), 12 Y4 (hiz), 13 A6 (in), 14 Y3 (hiz), 15 A7 (in), 16 Y2 (hiz), 17 A8 (in), 18 Y1 (hiz), 19 ~{OE}2 (in), 20 VCC (power)

## SN74LVC244ADBLE
designator U?
Octal Buffer/Driver with 3-State Outputs; Package Information: Latest Revision: May-1999; Code - JEDEC: MO-150-AE; Published: 8-Jun-2000; Revision: 17-Jul-2002: Re-released for DXP Platform.; Datasheet: Latest Revision: Apr-1999; Package Reference: DB020; Publisher: Altium Limited
footprint DB020 (Plastic SSOP; 20 Leads; Body Width 5.3 mm; Pitch 0.65 mm)
signal-integrity model SN74LVC244ADBLE
pins: 1 ~{OE}1 (in), 2 A1 (in), 3 Y8 (hiz), 4 A2 (in), 5 Y7 (hiz), 6 A3 (in), 7 Y6 (hiz), 8 A4 (in), 9 Y5 (hiz), 10 GND (power), 11 A5 (in), 12 Y4 (hiz), 13 A6 (in), 14 Y3 (hiz), 15 A7 (in), 16 Y2 (hiz), 17 A8 (in), 18 Y1 (hiz), 19 ~{OE}2 (in), 20 VCC (power)

## SN74LVC244ADW
designator U?
Octal Buffer/Driver with 3-State Outputs; Package Information: Latest Revision: Mar-2000; Code - JEDEC: MS-013; Published: 8-Jun-2000; Revision: 17-Jul-2002: Re-released for DXP Platform.; Datasheet: Latest Revision: Apr-1999; Package Reference: DW020; Publisher: Altium Limited
footprint DW020 (Plastic Small Outline; 20 Leads; Body Width 7.5 mm)
signal-integrity model SN74LVC244ADW
pins: 1 ~{OE}1 (in), 2 A1 (in), 3 Y8 (hiz), 4 A2 (in), 5 Y7 (hiz), 6 A3 (in), 7 Y6 (hiz), 8 A4 (in), 9 Y5 (hiz), 10 GND (power), 11 A5 (in), 12 Y4 (hiz), 13 A6 (in), 14 Y3 (hiz), 15 A7 (in), 16 Y2 (hiz), 17 A8 (in), 18 Y1 (hiz), 19 ~{OE}2 (in), 20 VCC (power)

## SN74LVC244APW
designator U?
Octal Buffer/Driver with 3-State Outputs; Package Information: Latest Revision: Feb-1999; Published: 8-Jun-2000; Revision: 17-Jul-2002: Re-released for DXP Platform.; Datasheet: Latest Revision: Apr-1999; Package Reference: PW020; Publisher: Altium Limited
footprint PW020 (Shrink Small Outline; 20 Leads; Body Width 4.4 mm; Pitch 0.65 mm)
signal-integrity model SN74LVC244APW
pins: 1 ~{OE}1 (in), 2 A1 (in), 3 Y8 (hiz), 4 A2 (in), 5 Y7 (hiz), 6 A3 (in), 7 Y6 (hiz), 8 A4 (in), 9 Y5 (hiz), 10 GND (power), 11 A5 (in), 12 Y4 (hiz), 13 A6 (in), 14 Y3 (hiz), 15 A7 (in), 16 Y2 (hiz), 17 A8 (in), 18 Y1 (hiz), 19 ~{OE}2 (in), 20 VCC (power)

## SN74LVC244APWLE
designator U?
Octal Buffer/Driver with 3-State Outputs; Package Information: Latest Revision: Feb-1999; Published: 8-Jun-2000; Revision: 17-Jul-2002: Re-released for DXP Platform.; Datasheet: Latest Revision: Apr-1999; Package Reference: PW020; Publisher: Altium Limited
footprint PW020 (Shrink Small Outline; 20 Leads; Body Width 4.4 mm; Pitch 0.65 mm)
signal-integrity model SN74LVC244APWLE
pins: 1 ~{OE}1 (in), 2 A1 (in), 3 Y8 (hiz), 4 A2 (in), 5 Y7 (hiz), 6 A3 (in), 7 Y6 (hiz), 8 A4 (in), 9 Y5 (hiz), 10 GND (power), 11 A5 (in), 12 Y4 (hiz), 13 A6 (in), 14 Y3 (hiz), 15 A7 (in), 16 Y2 (hiz), 17 A8 (in), 18 Y1 (hiz), 19 ~{OE}2 (in), 20 VCC (power)

## SN74LVC244DB
designator U?
Octal Buffer/Driver with 3-State Outputs; Package Information: Latest Revision: May-1999; Code - JEDEC: MO-150-AE; Published: 8-Jun-2000; Revision: 17-Jul-2002: Re-released for DXP Platform.; Datasheet: Latest Revision: Mar-1994; Package Reference: DB020; Publisher: Altium Limited
footprint DB020 (Plastic SSOP; 20 Leads; Body Width 5.3 mm; Pitch 0.65 mm)
signal-integrity model SN74LVC244DB
pins: 1 ~{OE}1 (in), 2 A1 (in), 3 Y8 (hiz), 4 A2 (in), 5 Y7 (hiz), 6 A3 (in), 7 Y6 (hiz), 8 A4 (in), 9 Y5 (hiz), 10 GND (power), 11 A5 (in), 12 Y4 (hiz), 13 A6 (in), 14 Y3 (hiz), 15 A7 (in), 16 Y2 (hiz), 17 A8 (in), 18 Y1 (hiz), 19 ~{OE}2 (in), 20 VCC (power)

## SN74LVC244DW
designator U?
Octal Buffer/Driver with 3-State Outputs; Package Information: Latest Revision: Mar-2000; Code - JEDEC: MS-013; Published: 8-Jun-2000; Revision: 17-Jul-2002: Re-released for DXP Platform.; Datasheet: Latest Revision: Mar-1994; Package Reference: DW020; Publisher: Altium Limited
footprint DW020 (Plastic Small Outline; 20 Leads; Body Width 7.5 mm)
signal-integrity model SN74LVC244DW
pins: 1 ~{OE}1 (in), 2 A1 (in), 3 Y8 (hiz), 4 A2 (in), 5 Y7 (hiz), 6 A3 (in), 7 Y6 (hiz), 8 A4 (in), 9 Y5 (hiz), 10 GND (power), 11 A5 (in), 12 Y4 (hiz), 13 A6 (in), 14 Y3 (hiz), 15 A7 (in), 16 Y2 (hiz), 17 A8 (in), 18 Y1 (hiz), 19 ~{OE}2 (in), 20 VCC (power)

## SN74LVC244PW
designator U?
Octal Buffer/Driver with 3-State Outputs; Package Information: Latest Revision: Feb-1999; Published: 8-Jun-2000; Revision: 17-Jul-2002: Re-released for DXP Platform.; Datasheet: Latest Revision: Mar-1994; Package Reference: PW020; Publisher: Altium Limited
footprint PW020 (Shrink Small Outline; 20 Leads; Body Width 4.4 mm; Pitch 0.65 mm)
signal-integrity model SN74LVC244PW
pins: 1 ~{OE}1 (in), 2 A1 (in), 3 Y8 (hiz), 4 A2 (in), 5 Y7 (hiz), 6 A3 (in), 7 Y6 (hiz), 8 A4 (in), 9 Y5 (hiz), 10 GND (power), 11 A5 (in), 12 Y4 (hiz), 13 A6 (in), 14 Y3 (hiz), 15 A7 (in), 16 Y2 (hiz), 17 A8 (in), 18 Y1 (hiz), 19 ~{OE}2 (in), 20 VCC (power)

## SN74LVC541ADBLE
designator U?
Octal Buffer/Driver with 3-State Outputs; Package Information: Latest Revision: May-1999; Code - JEDEC: MO-150-AE; Published: 8-Jun-2000; Revision: 17-Jul-2002: Re-released for DXP Platform.; Datasheet: Latest Revision: Jun-1998; Package Reference: DB020; Publisher: Altium Limited
footprint DB020 (Plastic SSOP; 20 Leads; Body Width 5.3 mm; Pitch 0.65 mm)
signal-integrity model SN74LVC541ADBLE
pins: 1 ~{OE}1 (in), 2 A1 (in), 3 A2 (in), 4 A3 (in), 5 A4 (in), 6 A5 (in), 7 A6 (in), 8 A7 (in), 9 A8 (in), 10 GND (power), 11 Y8 (hiz), 12 Y7 (hiz), 13 Y6 (hiz), 14 Y5 (hiz), 15 Y4 (hiz), 16 Y3 (hiz), 17 Y2 (hiz), 18 Y1 (hiz), 19 ~{OE}2 (in), 20 VCC (power)

## SN74LVC541ADW
designator U?
Octal Buffer/Driver with 3-State Outputs; Package Information: Latest Revision: Mar-2000; Code - JEDEC: MS-013; Published: 8-Jun-2000; Revision: 17-Jul-2002: Re-released for DXP Platform.; Datasheet: Latest Revision: Jun-1998; Package Reference: DW020; Publisher: Altium Limited
footprint DW020 (Plastic Small Outline; 20 Leads; Body Width 7.5 mm)
signal-integrity model SN74LVC541ADW
pins: 1 ~{OE}1 (in), 2 A1 (in), 3 A2 (in), 4 A3 (in), 5 A4 (in), 6 A5 (in), 7 A6 (in), 8 A7 (in), 9 A8 (in), 10 GND (power), 11 Y8 (hiz), 12 Y7 (hiz), 13 Y6 (hiz), 14 Y5 (hiz), 15 Y4 (hiz), 16 Y3 (hiz), 17 Y2 (hiz), 18 Y1 (hiz), 19 ~{OE}2 (in), 20 VCC (power)

## SN74LVC541APWLE
designator U?
Octal Buffer/Driver with 3-State Outputs; Package Information: Latest Revision: Feb-1999; Published: 8-Jun-2000; Revision: 17-Jul-2002: Re-released for DXP Platform.; Datasheet: Latest Revision: Jun-1998; Package Reference: PW020; Publisher: Altium Limited
footprint PW020 (Shrink Small Outline; 20 Leads; Body Width 4.4 mm; Pitch 0.65 mm)
signal-integrity model SN74LVC541APWLE
pins: 1 ~{OE}1 (in), 2 A1 (in), 3 A2 (in), 4 A3 (in), 5 A4 (in), 6 A5 (in), 7 A6 (in), 8 A7 (in), 9 A8 (in), 10 GND (power), 11 Y8 (hiz), 12 Y7 (hiz), 13 Y6 (hiz), 14 Y5 (hiz), 15 Y4 (hiz), 16 Y3 (hiz), 17 Y2 (hiz), 18 Y1 (hiz), 19 ~{OE}2 (in), 20 VCC (power)

## SN74LVC541DB
designator U?
Octal Buffer/Driver with 3-State Outputs; Package Information: Latest Revision: May-1999; Code - JEDEC: MO-150-AE; Published: 8-Jun-2000; Revision: 17-Jul-2002: Re-released for DXP Platform.; Datasheet: Latest Revision: Jul-1995; Package Reference: DB020; Publisher: Altium Limited
footprint DB020 (Plastic SSOP; 20 Leads; Body Width 5.3 mm; Pitch 0.65 mm)
signal-integrity model SN74LVC541DB
pins: 1 ~{OE}1 (in), 2 A1 (in), 3 A2 (in), 4 A3 (in), 5 A4 (in), 6 A5 (in), 7 A6 (in), 8 A7 (in), 9 A8 (in), 10 GND (power), 11 Y8 (hiz), 12 Y7 (hiz), 13 Y6 (hiz), 14 Y5 (hiz), 15 Y4 (hiz), 16 Y3 (hiz), 17 Y2 (hiz), 18 Y1 (hiz), 19 ~{OE}2 (in), 20 VCC (power)

## SN74LVC541DBLE
designator U?
Octal Buffer/Driver with 3-State Outputs; Package Information: Latest Revision: May-1999; Code - JEDEC: MO-150-AE; Published: 8-Jun-2000; Revision: 17-Jul-2002: Re-released for DXP Platform.; Datasheet: Latest Revision: Jul-1995; Package Reference: DB020; Publisher: Altium Limited
footprint DB020 (Plastic SSOP; 20 Leads; Body Width 5.3 mm; Pitch 0.65 mm)
signal-integrity model SN74LVC541DBLE
pins: 1 ~{OE}1 (in), 2 A1 (in), 3 A2 (in), 4 A3 (in), 5 A4 (in), 6 A5 (in), 7 A6 (in), 8 A7 (in), 9 A8 (in), 10 GND (power), 11 Y8 (hiz), 12 Y7 (hiz), 13 Y6 (hiz), 14 Y5 (hiz), 15 Y4 (hiz), 16 Y3 (hiz), 17 Y2 (hiz), 18 Y1 (hiz), 19 ~{OE}2 (in), 20 VCC (power)

## SN74LVC541DW
designator U?
Octal Buffer/Driver with 3-State Outputs; Package Information: Latest Revision: Mar-2000; Code - JEDEC: MS-013; Published: 8-Jun-2000; Revision: 17-Jul-2002: Re-released for DXP Platform.; Datasheet: Latest Revision: Jul-1995; Package Reference: DW020; Publisher: Altium Limited
footprint DW020 (Plastic Small Outline; 20 Leads; Body Width 7.5 mm)
signal-integrity model SN74LVC541DW
pins: 1 ~{OE}1 (in), 2 A1 (in), 3 A2 (in), 4 A3 (in), 5 A4 (in), 6 A5 (in), 7 A6 (in), 8 A7 (in), 9 A8 (in), 10 GND (power), 11 Y8 (hiz), 12 Y7 (hiz), 13 Y6 (hiz), 14 Y5 (hiz), 15 Y4 (hiz), 16 Y3 (hiz), 17 Y2 (hiz), 18 Y1 (hiz), 19 ~{OE}2 (in), 20 VCC (power)

## SN74LVC541PW
designator U?
Octal Buffer/Driver with 3-State Outputs; Package Information: Latest Revision: Feb-1999; Published: 8-Jun-2000; Revision: 17-Jul-2002: Re-released for DXP Platform.; Datasheet: Latest Revision: Jul-1995; Package Reference: PW020; Publisher: Altium Limited
footprint PW020 (Shrink Small Outline; 20 Leads; Body Width 4.4 mm; Pitch 0.65 mm)
signal-integrity model SN74LVC541PW
pins: 1 ~{OE}1 (in), 2 A1 (in), 3 A2 (in), 4 A3 (in), 5 A4 (in), 6 A5 (in), 7 A6 (in), 8 A7 (in), 9 A8 (in), 10 GND (power), 11 Y8 (hiz), 12 Y7 (hiz), 13 Y6 (hiz), 14 Y5 (hiz), 15 Y4 (hiz), 16 Y3 (hiz), 17 Y2 (hiz), 18 Y1 (hiz), 19 ~{OE}2 (in), 20 VCC (power)

## SN74LVC541PWLE
designator U?
Octal Buffer/Driver with 3-State Outputs; Package Information: Latest Revision: Feb-1999; Published: 8-Jun-2000; Revision: 17-Jul-2002: Re-released for DXP Platform.; Datasheet: Latest Revision: Jul-1995; Package Reference: PW020; Publisher: Altium Limited
footprint PW020 (Shrink Small Outline; 20 Leads; Body Width 4.4 mm; Pitch 0.65 mm)
signal-integrity model SN74LVC541PWLE
pins: 1 ~{OE}1 (in), 2 A1 (in), 3 A2 (in), 4 A3 (in), 5 A4 (in), 6 A5 (in), 7 A6 (in), 8 A7 (in), 9 A8 (in), 10 GND (power), 11 Y8 (hiz), 12 Y7 (hiz), 13 Y6 (hiz), 14 Y5 (hiz), 15 Y4 (hiz), 16 Y3 (hiz), 17 Y2 (hiz), 18 Y1 (hiz), 19 ~{OE}2 (in), 20 VCC (power)

## SN74LVC827ADBLE
designator U?
10-Bit Buffer/Driver with 3-State Outputs; Package Information: Latest Revision: May-1999; Code - JEDEC: MO-150-AG; Published: 8-Jun-2000; Revision: 17-Jul-2002: Re-released for DXP Platform.; Datasheet: Latest Revision: Jun-1998; Package Reference: DB024; Publisher: Altium Limited
footprint DB024 (Plastic SSOP; 24 Leads; Body Width 5.3 mm; Pitch 0.65 mm)
signal-integrity model SN74LVC827ADBLE
pins: 1 ~{OE}1 (in), 2 A1 (in), 3 A2 (in), 4 A3 (in), 5 A4 (in), 6 A5 (in), 7 A6 (in), 8 A7 (in), 9 A8 (in), 10 A9 (in), 11 A10 (in), 12 GND (power), 13 ~{OE}2 (in), 14 Y10 (hiz), 15 Y9 (hiz), 16 Y8 (hiz), 17 Y7 (hiz), 18 Y6 (hiz), 19 Y5 (hiz), 20 Y4 (hiz), 21 Y3 (hiz), 22 Y2 (hiz), 23 Y1 (hiz), 24 VCC (power)

## SN74LVC827ADW
designator U?
10-Bit Buffer/Driver with 3-State Outputs; Package Information: Latest Revision: Mar-2000; Code - JEDEC: MS-013; Published: 8-Jun-2000; Revision: 17-Jul-2002: Re-released for DXP Platform.; Datasheet: Latest Revision: Jun-1998; Package Reference: DW024; Publisher: Altium Limited
footprint DW024 (Plastic Small Outline; 24 Leads; Body Width 7.5 mm)
signal-integrity model SN74LVC827ADW
pins: 1 ~{OE}1 (in), 2 A1 (in), 3 A2 (in), 4 A3 (in), 5 A4 (in), 6 A5 (in), 7 A6 (in), 8 A7 (in), 9 A8 (in), 10 A9 (in), 11 A10 (in), 12 GND (power), 13 ~{OE}2 (in), 14 Y10 (hiz), 15 Y9 (hiz), 16 Y8 (hiz), 17 Y7 (hiz), 18 Y6 (hiz), 19 Y5 (hiz), 20 Y4 (hiz), 21 Y3 (hiz), 22 Y2 (hiz), 23 Y1 (hiz), 24 VCC (power)

## SN74LVC827APWLE
designator U?
10-Bit Buffer/Driver with 3-State Outputs; Package Information: Latest Revision: Feb-1999; Published: 8-Jun-2000; Revision: 17-Jul-2002: Re-released for DXP Platform.; Datasheet: Latest Revision: Jun-1998; Package Reference: PW024; Publisher: Altium Limited
footprint PW024 (Shrink Small Outline; 24 Leads; Body Width 4.4 mm; Pitch 0.65 mm)
signal-integrity model SN74LVC827APWLE
pins: 1 ~{OE}1 (in), 2 A1 (in), 3 A2 (in), 4 A3 (in), 5 A4 (in), 6 A5 (in), 7 A6 (in), 8 A7 (in), 9 A8 (in), 10 A9 (in), 11 A10 (in), 12 GND (power), 13 ~{OE}2 (in), 14 Y10 (hiz), 15 Y9 (hiz), 16 Y8 (hiz), 17 Y7 (hiz), 18 Y6 (hiz), 19 Y5 (hiz), 20 Y4 (hiz), 21 Y3 (hiz), 22 Y2 (hiz), 23 Y1 (hiz), 24 VCC (power)

## SN74LVC827DB
designator U?
10-Bit Buffer/Driver with 3-State Outputs; Package Information: Latest Revision: May-1999; Code - JEDEC: MO-150-AG; Published: 8-Jun-2000; Revision: 17-Jul-2002: Re-released for DXP Platform.; Datasheet: Latest Revision: Jul-1995; Package Reference: DB024; Publisher: Altium Limited
footprint DB024 (Plastic SSOP; 24 Leads; Body Width 5.3 mm; Pitch 0.65 mm)
signal-integrity model SN74LVC827DB
pins: 1 ~{OE}1 (in), 2 A1 (in), 3 A2 (in), 4 A3 (in), 5 A4 (in), 6 A5 (in), 7 A6 (in), 8 A7 (in), 9 A8 (in), 10 A9 (in), 11 A10 (in), 12 GND (power), 13 ~{OE}2 (in), 14 Y10 (hiz), 15 Y9 (hiz), 16 Y8 (hiz), 17 Y7 (hiz), 18 Y6 (hiz), 19 Y5 (hiz), 20 Y4 (hiz), 21 Y3 (hiz), 22 Y2 (hiz), 23 Y1 (hiz), 24 VCC (power)

## SN74LVC827DBLE
designator U?
10-Bit Buffer/Driver with 3-State Outputs; Package Information: Latest Revision: May-1999; Code - JEDEC: MO-150-AG; Published: 8-Jun-2000; Revision: 17-Jul-2002: Re-released for DXP Platform.; Datasheet: Latest Revision: Jul-1995; Package Reference: DB024; Publisher: Altium Limited
footprint DB024 (Plastic SSOP; 24 Leads; Body Width 5.3 mm; Pitch 0.65 mm)
signal-integrity model SN74LVC827DBLE
pins: 1 ~{OE}1 (in), 2 A1 (in), 3 A2 (in), 4 A3 (in), 5 A4 (in), 6 A5 (in), 7 A6 (in), 8 A7 (in), 9 A8 (in), 10 A9 (in), 11 A10 (in), 12 GND (power), 13 ~{OE}2 (in), 14 Y10 (hiz), 15 Y9 (hiz), 16 Y8 (hiz), 17 Y7 (hiz), 18 Y6 (hiz), 19 Y5 (hiz), 20 Y4 (hiz), 21 Y3 (hiz), 22 Y2 (hiz), 23 Y1 (hiz), 24 VCC (power)

## SN74LVC827DW
designator U?
10-Bit Buffer/Driver with 3-State Outputs; Package Information: Latest Revision: Mar-2000; Code - JEDEC: MS-013; Published: 8-Jun-2000; Revision: 17-Jul-2002: Re-released for DXP Platform.; Datasheet: Latest Revision: Jul-1995; Package Reference: DW024; Publisher: Altium Limited
footprint DW024 (Plastic Small Outline; 24 Leads; Body Width 7.5 mm)
signal-integrity model SN74LVC827DW
pins: 1 ~{OE}1 (in), 2 A1 (in), 3 A2 (in), 4 A3 (in), 5 A4 (in), 6 A5 (in), 7 A6 (in), 8 A7 (in), 9 A8 (in), 10 A9 (in), 11 A10 (in), 12 GND (power), 13 ~{OE}2 (in), 14 Y10 (hiz), 15 Y9 (hiz), 16 Y8 (hiz), 17 Y7 (hiz), 18 Y6 (hiz), 19 Y5 (hiz), 20 Y4 (hiz), 21 Y3 (hiz), 22 Y2 (hiz), 23 Y1 (hiz), 24 VCC (power)

## SN74LVC827PW
designator U?
10-Bit Buffer/Driver with 3-State Outputs; Package Information: Latest Revision: Feb-1999; Published: 8-Jun-2000; Revision: 17-Jul-2002: Re-released for DXP Platform.; Datasheet: Latest Revision: Jul-1995; Package Reference: PW024; Publisher: Altium Limited
footprint PW024 (Shrink Small Outline; 24 Leads; Body Width 4.4 mm; Pitch 0.65 mm)
signal-integrity model SN74LVC827PW
pins: 1 ~{OE}1 (in), 2 A1 (in), 3 A2 (in), 4 A3 (in), 5 A4 (in), 6 A5 (in), 7 A6 (in), 8 A7 (in), 9 A8 (in), 10 A9 (in), 11 A10 (in), 12 GND (power), 13 ~{OE}2 (in), 14 Y10 (hiz), 15 Y9 (hiz), 16 Y8 (hiz), 17 Y7 (hiz), 18 Y6 (hiz), 19 Y5 (hiz), 20 Y4 (hiz), 21 Y3 (hiz), 22 Y2 (hiz), 23 Y1 (hiz), 24 VCC (power)

## SN74LVC827PWLE
designator U?
10-Bit Buffer/Driver with 3-State Outputs; Package Information: Latest Revision: Feb-1999; Published: 8-Jun-2000; Revision: 17-Jul-2002: Re-released for DXP Platform.; Datasheet: Latest Revision: Jul-1995; Package Reference: PW024; Publisher: Altium Limited
footprint PW024 (Shrink Small Outline; 24 Leads; Body Width 4.4 mm; Pitch 0.65 mm)
signal-integrity model SN74LVC827PWLE
pins: 1 ~{OE}1 (in), 2 A1 (in), 3 A2 (in), 4 A3 (in), 5 A4 (in), 6 A5 (in), 7 A6 (in), 8 A7 (in), 9 A8 (in), 10 A9 (in), 11 A10 (in), 12 GND (power), 13 ~{OE}2 (in), 14 Y10 (hiz), 15 Y9 (hiz), 16 Y8 (hiz), 17 Y7 (hiz), 18 Y6 (hiz), 19 Y5 (hiz), 20 Y4 (hiz), 21 Y3 (hiz), 22 Y2 (hiz), 23 Y1 (hiz), 24 VCC (power)

## SN74LVC828ADBLE
designator U?
10-Bit Buffer/Driver with 3-State Outputs; Package Information: Latest Revision: May-1999; Code - JEDEC: MO-150-AG; Published: 8-Jun-2000; Revision: 17-Jul-2002: Re-released for DXP Platform.; Datasheet: Latest Revision: Jun-1998; Package Reference: DB024; Publisher: Altium Limited
footprint DB024 (Plastic SSOP; 24 Leads; Body Width 5.3 mm; Pitch 0.65 mm)
signal-integrity model SN74LVC828ADBLE
pins: 1 ~{OE}1 (in), 2 A1 (in), 3 A2 (in), 4 A3 (in), 5 A4 (in), 6 A5 (in), 7 A6 (in), 8 A7 (in), 9 A8 (in), 10 A9 (in), 11 A10 (in), 12 GND (power), 13 ~{OE}2 (in), 14 ~{Y}10 (hiz), 15 ~{Y}9 (hiz), 16 ~{Y}8 (hiz), 17 ~{Y}7 (hiz), 18 ~{Y}6 (hiz), 19 ~{Y}5 (hiz), 20 ~{Y}4 (hiz), 21 ~{Y}3 (hiz), 22 ~{Y}2 (hiz), 23 ~{Y}1 (hiz), 24 VCC (power)

## SN74LVC828ADW
designator U?
10-Bit Buffer/Driver with 3-State Outputs; Package Information: Latest Revision: Mar-2000; Code - JEDEC: MS-013; Published: 8-Jun-2000; Revision: 17-Jul-2002: Re-released for DXP Platform.; Datasheet: Latest Revision: Jun-1998; Package Reference: DW024; Publisher: Altium Limited
footprint DW024 (Plastic Small Outline; 24 Leads; Body Width 7.5 mm)
signal-integrity model SN74LVC828ADW
pins: 1 ~{OE}1 (in), 2 A1 (in), 3 A2 (in), 4 A3 (in), 5 A4 (in), 6 A5 (in), 7 A6 (in), 8 A7 (in), 9 A8 (in), 10 A9 (in), 11 A10 (in), 12 GND (power), 13 ~{OE}2 (in), 14 ~{Y}10 (hiz), 15 ~{Y}9 (hiz), 16 ~{Y}8 (hiz), 17 ~{Y}7 (hiz), 18 ~{Y}6 (hiz), 19 ~{Y}5 (hiz), 20 ~{Y}4 (hiz), 21 ~{Y}3 (hiz), 22 ~{Y}2 (hiz), 23 ~{Y}1 (hiz), 24 VCC (power)

## SN74LVC828APWLE
designator U?
10-Bit Buffer/Driver with 3-State Outputs; Package Information: Latest Revision: Feb-1999; Published: 8-Jun-2000; Revision: 17-Jul-2002: Re-released for DXP Platform.; Datasheet: Latest Revision: Jun-1998; Package Reference: PW024; Publisher: Altium Limited
footprint PW024 (Shrink Small Outline; 24 Leads; Body Width 4.4 mm; Pitch 0.65 mm)
signal-integrity model SN74LVC828APWLE
pins: 1 ~{OE}1 (in), 2 A1 (in), 3 A2 (in), 4 A3 (in), 5 A4 (in), 6 A5 (in), 7 A6 (in), 8 A7 (in), 9 A8 (in), 10 A9 (in), 11 A10 (in), 12 GND (power), 13 ~{OE}2 (in), 14 ~{Y}10 (hiz), 15 ~{Y}9 (hiz), 16 ~{Y}8 (hiz), 17 ~{Y}7 (hiz), 18 ~{Y}6 (hiz), 19 ~{Y}5 (hiz), 20 ~{Y}4 (hiz), 21 ~{Y}3 (hiz), 22 ~{Y}2 (hiz), 23 ~{Y}1 (hiz), 24 VCC (power)

## SN74LVC828DB
designator U?
10-Bit Buffer/Driver with 3-State Outputs; Package Information: Latest Revision: May-1999; Code - JEDEC: MO-150-AG; Published: 8-Jun-2000; Revision: 17-Jul-2002: Re-released for DXP Platform.; Datasheet: Latest Revision: Jul-1995; Package Reference: DB024; Publisher: Altium Limited
footprint DB024 (Plastic SSOP; 24 Leads; Body Width 5.3 mm; Pitch 0.65 mm)
signal-integrity model SN74LVC828DB
pins: 1 ~{OE}1 (in), 2 A1 (in), 3 A2 (in), 4 A3 (in), 5 A4 (in), 6 A5 (in), 7 A6 (in), 8 A7 (in), 9 A8 (in), 10 A9 (in), 11 A10 (in), 12 GND (power), 13 ~{OE}2 (in), 14 ~{Y}10 (hiz), 15 ~{Y}9 (hiz), 16 ~{Y}8 (hiz), 17 ~{Y}7 (hiz), 18 ~{Y}6 (hiz), 19 ~{Y}5 (hiz), 20 ~{Y}4 (hiz), 21 ~{Y}3 (hiz), 22 ~{Y}2 (hiz), 23 ~{Y}1 (hiz), 24 VCC (power)

## SN74LVC828DBLE
designator U?
10-Bit Buffer/Driver with 3-State Outputs; Package Information: Latest Revision: May-1999; Code - JEDEC: MO-150-AG; Published: 8-Jun-2000; Revision: 17-Jul-2002: Re-released for DXP Platform.; Datasheet: Latest Revision: Jul-1995; Package Reference: DB024; Publisher: Altium Limited
footprint DB024 (Plastic SSOP; 24 Leads; Body Width 5.3 mm; Pitch 0.65 mm)
signal-integrity model SN74LVC828DBLE
pins: 1 ~{OE}1 (in), 2 A1 (in), 3 A2 (in), 4 A3 (in), 5 A4 (in), 6 A5 (in), 7 A6 (in), 8 A7 (in), 9 A8 (in), 10 A9 (in), 11 A10 (in), 12 GND (power), 13 ~{OE}2 (in), 14 ~{Y}10 (hiz), 15 ~{Y}9 (hiz), 16 ~{Y}8 (hiz), 17 ~{Y}7 (hiz), 18 ~{Y}6 (hiz), 19 ~{Y}5 (hiz), 20 ~{Y}4 (hiz), 21 ~{Y}3 (hiz), 22 ~{Y}2 (hiz), 23 ~{Y}1 (hiz), 24 VCC (power)

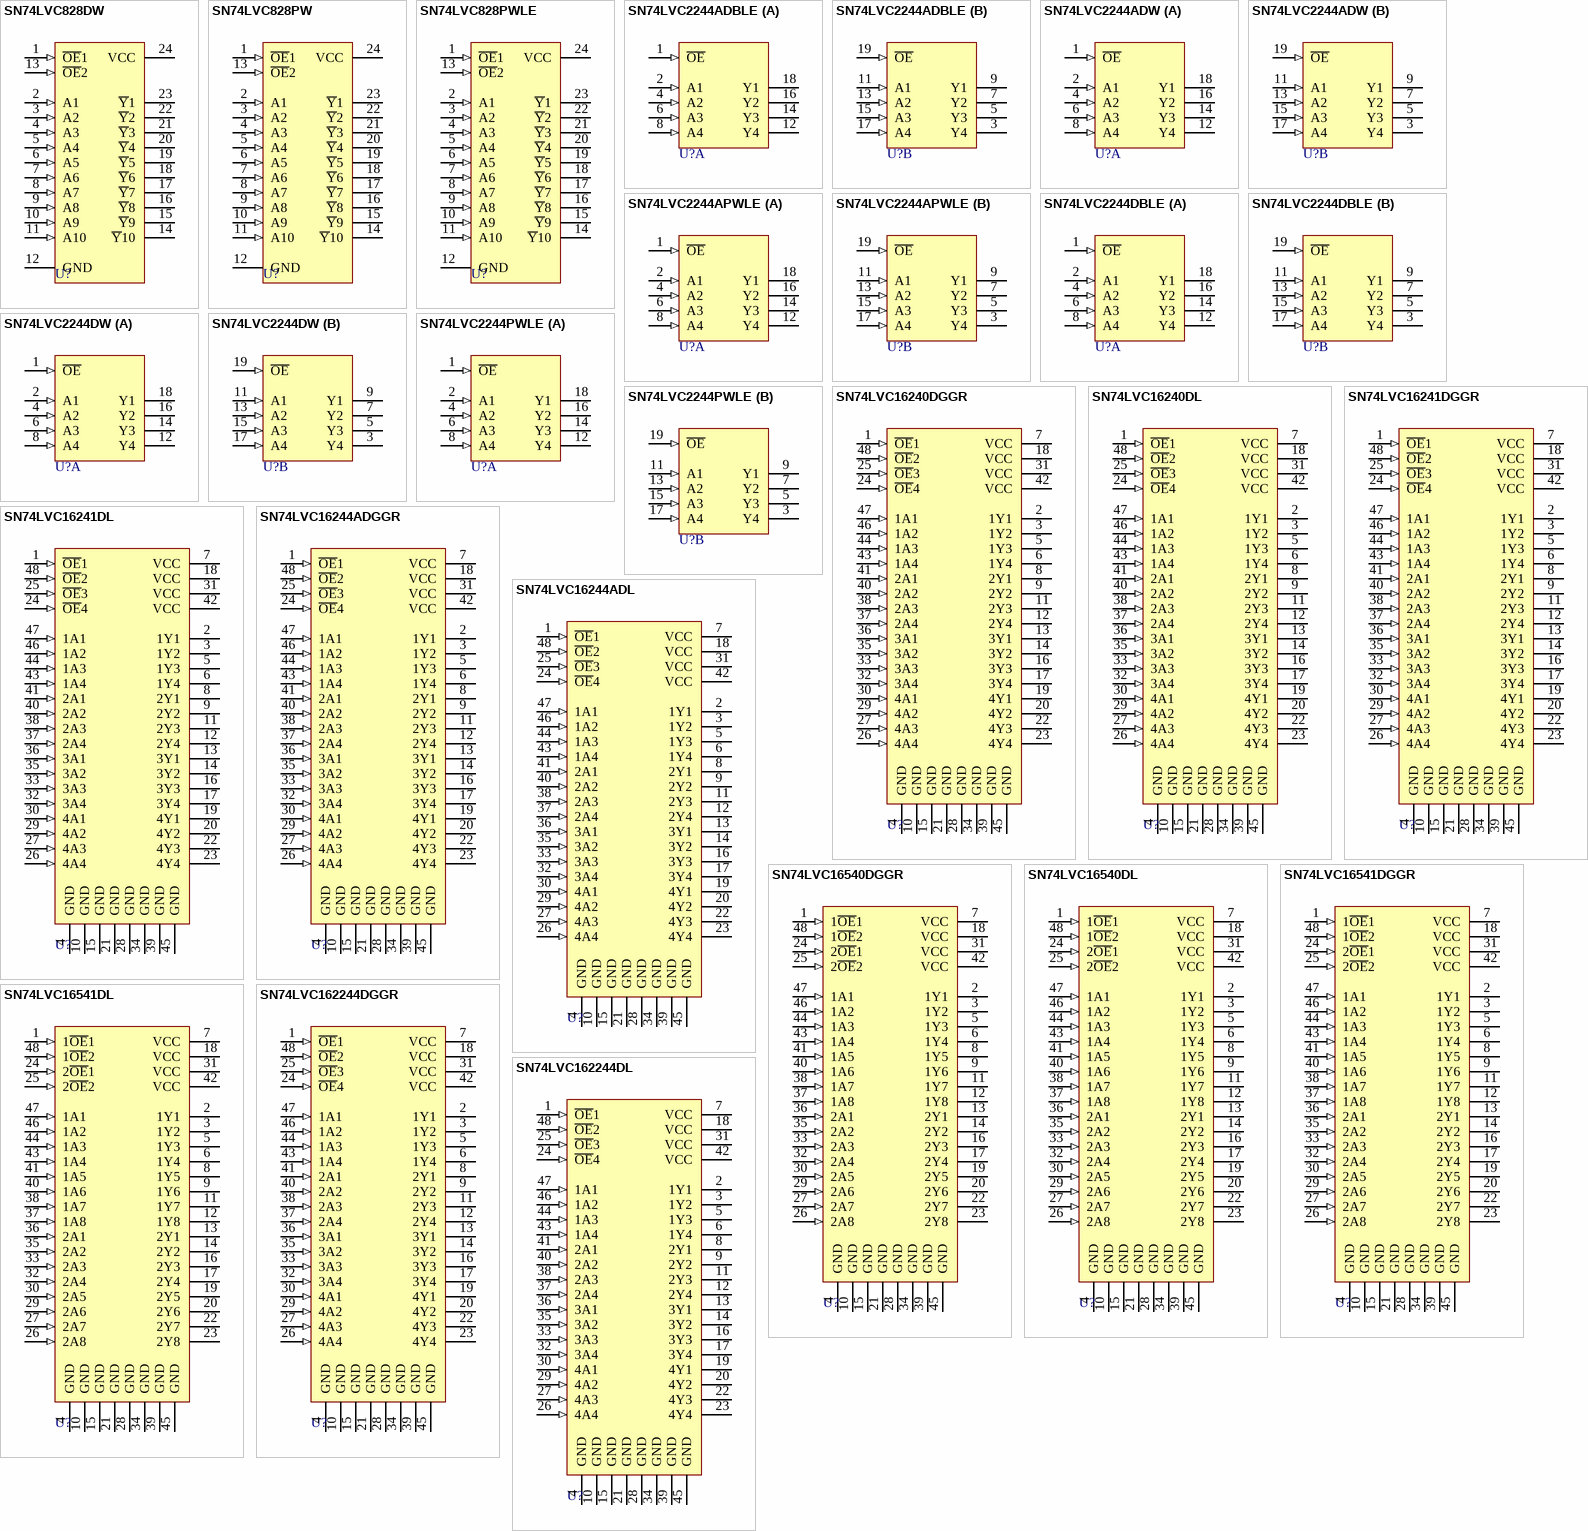
[diagram p32: symbols SN74LVC828DW to SN74LVC162244DL]

## SN74LVC828DW
designator U?
10-Bit Buffer/Driver with 3-State Outputs; Package Information: Latest Revision: Mar-2000; Code - JEDEC: MS-013; Published: 8-Jun-2000; Revision: 17-Jul-2002: Re-released for DXP Platform.; Datasheet: Latest Revision: Jul-1995; Package Reference: DW024; Publisher: Altium Limited
footprint DW024 (Plastic Small Outline; 24 Leads; Body Width 7.5 mm)
signal-integrity model SN74LVC828DW
pins: 1 ~{OE}1 (in), 2 A1 (in), 3 A2 (in), 4 A3 (in), 5 A4 (in), 6 A5 (in), 7 A6 (in), 8 A7 (in), 9 A8 (in), 10 A9 (in), 11 A10 (in), 12 GND (power), 13 ~{OE}2 (in), 14 ~{Y}10 (hiz), 15 ~{Y}9 (hiz), 16 ~{Y}8 (hiz), 17 ~{Y}7 (hiz), 18 ~{Y}6 (hiz), 19 ~{Y}5 (hiz), 20 ~{Y}4 (hiz), 21 ~{Y}3 (hiz), 22 ~{Y}2 (hiz), 23 ~{Y}1 (hiz), 24 VCC (power)

## SN74LVC828PW
designator U?
10-Bit Buffer/Driver with 3-State Outputs; Package Information: Latest Revision: Feb-1999; Published: 8-Jun-2000; Revision: 17-Jul-2002: Re-released for DXP Platform.; Datasheet: Latest Revision: Jul-1995; Package Reference: PW024; Publisher: Altium Limited
footprint PW024 (Shrink Small Outline; 24 Leads; Body Width 4.4 mm; Pitch 0.65 mm)
signal-integrity model SN74LVC828PW
pins: 1 ~{OE}1 (in), 2 A1 (in), 3 A2 (in), 4 A3 (in), 5 A4 (in), 6 A5 (in), 7 A6 (in), 8 A7 (in), 9 A8 (in), 10 A9 (in), 11 A10 (in), 12 GND (power), 13 ~{OE}2 (in), 14 ~{Y}10 (hiz), 15 ~{Y}9 (hiz), 16 ~{Y}8 (hiz), 17 ~{Y}7 (hiz), 18 ~{Y}6 (hiz), 19 ~{Y}5 (hiz), 20 ~{Y}4 (hiz), 21 ~{Y}3 (hiz), 22 ~{Y}2 (hiz), 23 ~{Y}1 (hiz), 24 VCC (power)

## SN74LVC828PWLE
designator U?
10-Bit Buffer/Driver with 3-State Outputs; Package Information: Latest Revision: Feb-1999; Published: 8-Jun-2000; Revision: 17-Jul-2002: Re-released for DXP Platform.; Datasheet: Latest Revision: Jul-1995; Package Reference: PW024; Publisher: Altium Limited
footprint PW024 (Shrink Small Outline; 24 Leads; Body Width 4.4 mm; Pitch 0.65 mm)
signal-integrity model SN74LVC828PWLE
pins: 1 ~{OE}1 (in), 2 A1 (in), 3 A2 (in), 4 A3 (in), 5 A4 (in), 6 A5 (in), 7 A6 (in), 8 A7 (in), 9 A8 (in), 10 A9 (in), 11 A10 (in), 12 GND (power), 13 ~{OE}2 (in), 14 ~{Y}10 (hiz), 15 ~{Y}9 (hiz), 16 ~{Y}8 (hiz), 17 ~{Y}7 (hiz), 18 ~{Y}6 (hiz), 19 ~{Y}5 (hiz), 20 ~{Y}4 (hiz), 21 ~{Y}3 (hiz), 22 ~{Y}2 (hiz), 23 ~{Y}1 (hiz), 24 VCC (power)

## SN74LVC2244ADBLE
designator U?
Octal Buffer/Driver with 3-State Outputs; Package Information: Latest Revision: May-1999; Code - JEDEC: MO-150-AE; Published: 8-Jun-2000; Revision: 17-Jul-2002: Re-released for DXP Platform.; Datasheet: Latest Revision: Jun-1998; Package Reference: DB020; Publisher: Altium Limited
footprint DB020 (Plastic SSOP; 20 Leads; Body Width 5.3 mm; Pitch 0.65 mm)
signal-integrity model SN74LVC2244ADBLE
pins on every part: 10 GND (power) hidden to GND, 20 VCC (power) hidden to VCC
part A pins: 1 ~{OE} (in), 2 A1 (in), 4 A2 (in), 6 A3 (in), 8 A4 (in), 12 Y4 (hiz), 14 Y3 (hiz), 16 Y2 (hiz), 18 Y1 (hiz)
part B pins: 3 Y4 (hiz), 5 Y3 (hiz), 7 Y2 (hiz), 9 Y1 (hiz), 11 A1 (in), 13 A2 (in), 15 A3 (in), 17 A4 (in), 19 ~{OE} (in)

## SN74LVC2244ADW
designator U?
Octal Buffer/Driver with 3-State Outputs; Package Information: Latest Revision: Mar-2000; Code - JEDEC: MS-013; Published: 8-Jun-2000; Revision: 17-Jul-2002: Re-released for DXP Platform.; Datasheet: Latest Revision: Jun-1998; Package Reference: DW020; Publisher: Altium Limited
footprint DW020 (Plastic Small Outline; 20 Leads; Body Width 7.5 mm)
signal-integrity model SN74LVC2244ADW
pins on every part: 10 GND (power) hidden to GND, 20 VCC (power) hidden to VCC
part A pins: 1 ~{OE} (in), 2 A1 (in), 4 A2 (in), 6 A3 (in), 8 A4 (in), 12 Y4 (hiz), 14 Y3 (hiz), 16 Y2 (hiz), 18 Y1 (hiz)
part B pins: 3 Y4 (hiz), 5 Y3 (hiz), 7 Y2 (hiz), 9 Y1 (hiz), 11 A1 (in), 13 A2 (in), 15 A3 (in), 17 A4 (in), 19 ~{OE} (in)